# Altium footprint library 1729128 MKDSN.PcbLib: 1 footprints
Each footprint in its own frame and in the unit in brackets; x right, y up, seen from the top. Pads: shape width x height; smd on the part's side, far side on the other; paste and mask are expansions set on the pad; w line width, h text height; cw(c..) or ccw(c..) is an arc to the next point about the centre after c.
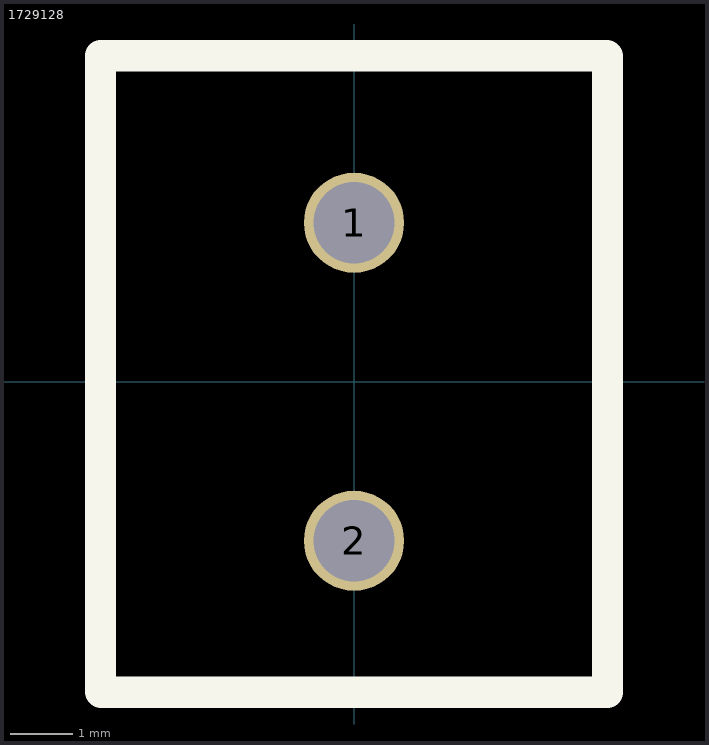
[diagram p0: the footprint, top view; thin cyan lines are the x and y axes]

## 1729128 [mm]
pads (2):
  round 1.6 hole 1.3: 1(0,2.54) 2(0,-2.54)
Top Overlay:
  lines w0.5: -4.05,-4.953 -4.05,5.207 4.043,5.207 ; -4.043,-4.96 4.05,-4.96 4.05,5.2
3D body: height 10, standoff 0, extent -1.025,-5 4.025,5.175
3D body: height 7, standoff 0, extent -3.975,-5 4.025,5.175